# EAGLE library part 82288 (library micro-siemens)
MICROPROCESSOR/PERIPHERAL DEVICE
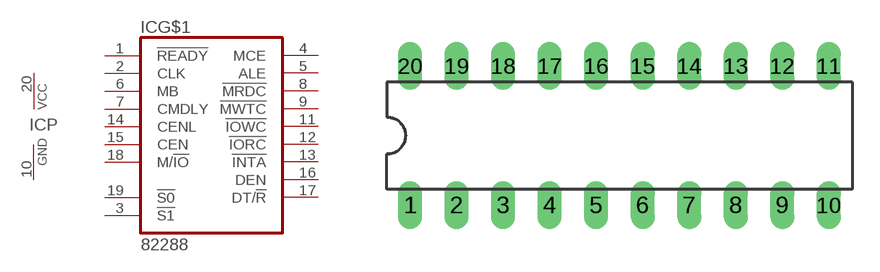
[diagram p43: symbol with the pads of DIL20; footprint DIL20]

Designator prefix IC; gates G$1=82288 P=VCCGND

## 82288 (OC_FARNELL: unknown; OC_NEWARK: unknown)  [DIL20]
1  G$1:!READY  in
2  G$1:CLK  in
3  G$1:!S1  in
4  G$1:MCE  out
5  G$1:ALE  out
6  G$1:MB  in
7  G$1:CMDLY  in
8  G$1:!MRDC  out
9  G$1:!MWTC  out
10  P:GND  pwr
11  G$1:!IOWC  out
12  G$1:!IORC  out
13  G$1:!INTA  out
14  G$1:CENL  in
15  G$1:CEN  in
16  G$1:DEN  out
17  G$1:DT/!R  out
18  G$1:M/!IO  in
19  G$1:!S0  in
20  P:VCC  pwr

## Footprint DIL20 (pad centres in mm)
Dual In Line Package
drill 0.813 long: 1 -11.43,-3.81; 2 -8.89,-3.81; 3 -6.35,-3.81; 4 -3.81,-3.81; 5 -1.27,-3.81; 6 1.27,-3.81; 7 3.81,-3.81; 8 6.35,-3.81; 9 8.89,-3.81; 10 11.43,-3.81; 11 11.43,3.81; 12 8.89,3.81; 13 6.35,3.81; 14 3.81,3.81; 15 1.27,3.81; 16 -1.27,3.81; 17 -3.81,3.81; 18 -6.35,3.81; 19 -8.89,3.81; 20 -11.43,3.81